# Altium footprint library TO220.PcbLib: 1 footprints
Each footprint in its own frame and in the unit in brackets; x right, y up, seen from the top. Pads: shape width x height; smd on the part's side, far side on the other; paste and mask are expansions set on the pad; w line width, h text height; cw(c..) or ccw(c..) is an arc to the next point about the centre after c.
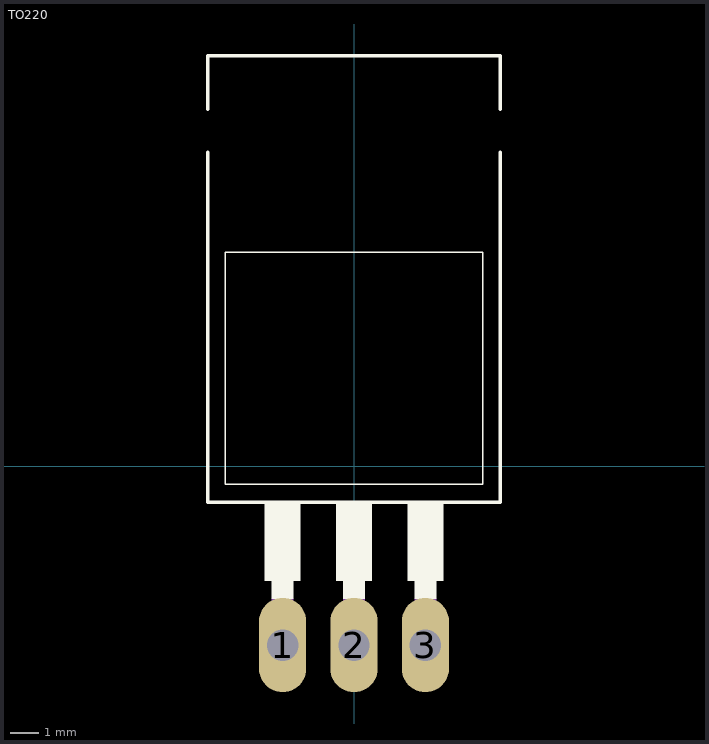
[diagram p0: the footprint, top view; thin cyan lines are the x and y axes]

## TO220 [mil]
pads (3):
  oval 66x132 hole 44: 1(-100,-250) 2(0,-250) 3(100,-250)
Top Overlay:
  region: 125,-160.18 75.08,-160.18 75.08,-50 125,-50
  region: 25,-160.22 -25.03,-160.22 -25.03,-50 25,-50
  region: -75,-160.28 -125.22,-160.28 -125.22,-50 -75,-50
  region: -85,-185.08 -115.05,-185.08 -115.05,-160 -85,-160
  region: 15,-185.09 -15.01,-185.09 -15.01,-160 15,-160
  region: 115,-185.06 85.03,-185.06 85.03,-160 115,-160
  lines w2: -180,-25 -180,300 180,300 180,-25 -180,-25
  lines w5: -205,440 -205,-50 205,-50 205,440 ; -205,500 -205,575 205,575 205,500
Mechanical 13:
  region: 115,-260.31 85.1,-260.31 85.1,-185 115,-185
  region: 15,-260.5 -15.03,-260.5 -15.03,-185 15,-185
  region: -85,-260.33 -115.14,-260.33 -115.14,-185 -85,-185
  text "3" at 75.02,0 h50.01
  text "2" at -25.04,0 h50.08
  text "1" at -125.24,0 h50.1